# Altium footprint library SOT-416FL, Mosfet - Type 1.PcbLib: 1 footprints
Each footprint in its own frame and in the unit in brackets; x right, y up, seen from the top. Pads: shape width x height; smd on the part's side, far side on the other; paste and mask are expansions set on the pad; w line width, h text height; cw(c..) or ccw(c..) is an arc to the next point about the centre after c.
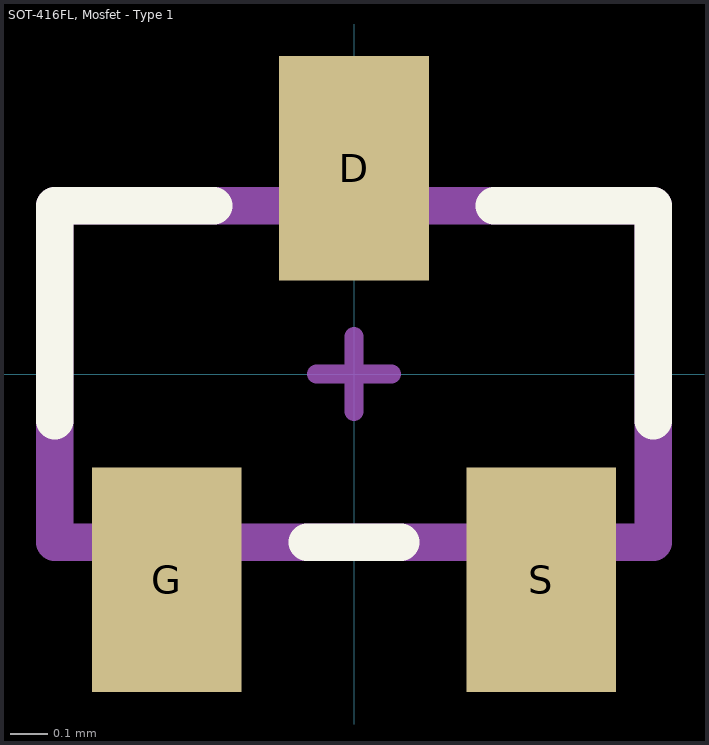
[diagram p0: the footprint, top view; thin cyan lines are the x and y axes]

## SOT-416FL, Mosfet - Type 1 [mm] "SOT-416FL, Mosfet - Type 1"
height 0.75
pads (3):
  rect 0.4x0.6 smd mask+0.05: D(0,0.55) G(-0.5,-0.55) S(0.5,-0.55)
Top Overlay:
  lines w0.1: -0.8,-0.125 -0.8,0.45 -0.375,0.45 ; -0.125,-0.45 0.125,-0.45 ; 0.375,0.45 0.8,0.45 0.8,-0.125
Top Assembly:
  lines w0.1: -0.8,-0.45 -0.8,0.45 0.8,0.45 0.8,-0.45 -0.8,-0.45
Top Designator:
  text ".Designator" at -1.5,-1.612 h1
Top Component Center:
  lines w0.05: -0.1,0 0.1,0 ; 0,-0.1 0,0.1
3D body "SOT-416FL, SC-89.step": height 0.87, standoff 0, extent -0.8,-0.851 0.8,0.851